# Altium integrated library ON Semi Low VCE(Sat) Transistors.IntLib: 130 symbols (part 1 of 3)
Pins are listed as number, name and electrical type; pins without a type are passive.

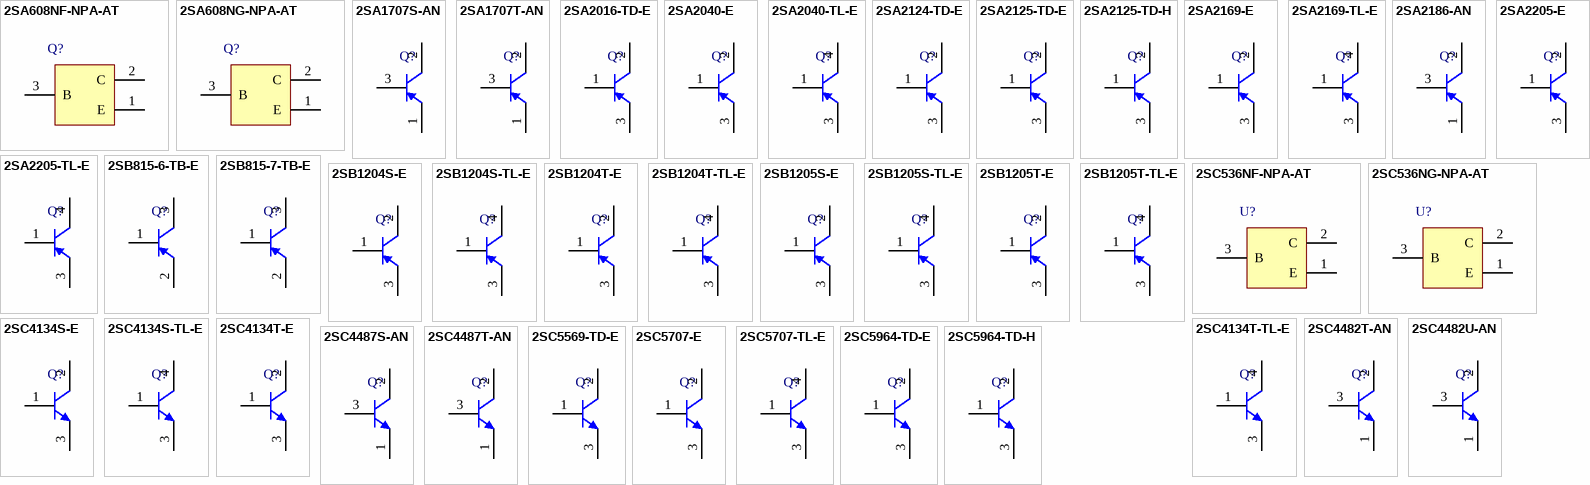
[diagram p0: symbols 2SA608NF-NPA-AT to 2SC5964-TD-H]

## 2SA608NF-NPA-AT
designator Q?
Bipolar Transistor, -50 V, -150 mA, Low VCE(sat), PNP Single, 3-Pin TO-92, Pb-Free, Fan-Fold; Manufacturer: On Semiconductor; PartNumber: 2SA608NF-NPA-AT; hFE Max: 320; hFE Min: 160; IC Continuous (A): -0.15; VCE(sat) Max (V): -0.3; PackageVersion: Rev. O, 04/2012; PackageReference: TO-92-3-135AH; PackageDescription: 3-Pin Transistor Outline, Body 4.5 x 3.5 mm, Pitch 2.5 mm; Supplier 1: Digi-Key; Supplier Part Number 1: 2SA608NF-NPA-AT-ND; Supplier 2: Mouser; Supplier Part Number 2: 863-2SA608NF-NPA-AT; Packing: Fan-Fold; Polarity: PNP; RoHS: TRUE; V(BR)CEO Min (V): -50; Mounting Technology: Through Hole; ComponentLink1Description: Manufacturer URL; ComponentLink1URL: http://www.onsemi.com/; ComponentLink2Description: Datasheet; ComponentLink2URL: http://www.onsemi.com/pub_link/Collateral/EN6324-D.PDF; ComponentLink3Description: Package Specification; ComponentLink3URL: http://www.onsemi.com/pub_link/Collateral/135AH.PDF
footprint ONSC-TO-92-3-135AH (TO, 3-Leads, Body Dia 4.5 mm, Pitch 2.5 mm)
pins: 1 E, 2 C, 3 B

## 2SA608NG-NPA-AT
designator Q?
Bipolar Transistor, -50 V, -150 mA, Low VCE(sat), PNP Single, 3-Pin TO-92, Pb-Free, Fan-Fold; Manufacturer: On Semiconductor; PartNumber: 2SA608NG-NPA-AT; hFE Max: 560; hFE Min: 280; IC Continuous (A): -0.15; VCE(sat) Max (V): -0.3; PackageVersion: Rev. O, 04/2012; PackageReference: TO-92-3-135AH; PackageDescription: 3-Pin Transistor Outline, Body 4.5 x 3.5 mm, Pitch 2.5 mm; Supplier 1: Digi-Key; Supplier Part Number 1: 2SA608NG-NPA-AT-ND; Supplier 2: Mouser; Supplier Part Number 2: 863-2SA608NG-NPA-AT; Packing: Fan-Fold; Polarity: PNP; RoHS: TRUE; V(BR)CEO Min (V): -50; Mounting Technology: Through Hole; ComponentLink1Description: Manufacturer URL; ComponentLink1URL: http://www.onsemi.com/; ComponentLink2Description: Datasheet; ComponentLink2URL: http://www.onsemi.com/pub_link/Collateral/EN6324-D.PDF; ComponentLink3Description: Package Specification; ComponentLink3URL: http://www.onsemi.com/pub_link/Collateral/135AH.PDF
footprint ONSC-TO-92-3-135AH (TO, 3-Leads, Body Dia 4.5 mm, Pitch 2.5 mm)
pins: 1 E, 2 C, 3 B

## 2SA1707S-AN
designator Q?
Bipolar Transistor, -50 V, -3 A, Low VCE(sat), PNP Single, 3-Pin NMP, Pb-Free, Fan-Fold; Manufacturer: On Semiconductor; PartNumber: 2SA1707S-AN; hFE Max: 280; hFE Min: 140; VCE(sat) Max (V): -0.7; PackageVersion: Rev. A, 05/2012; PackageReference: NMP-3-135AD; PackageDescription: 3-Pin Transistor Outline, Body 6.9 x 2.5 mm, Pitch 2.54 mm; Supplier 1: Digi-Key; Supplier Part Number 1: 2SA1707S-AN-ND; Supplier 2: Mouser; Supplier Part Number 2: 863-2SA1707S-AN; IC Continuous (A): -3; Packing: Fan-Fold; Polarity: PNP; RoHS: TRUE; V(BR)CEO Min (V): -50; Mounting Technology: Through Hole; ComponentLink1Description: Manufacturer URL; ComponentLink1URL: http://www.onsemi.com/; ComponentLink2Description: Datasheet; ComponentLink2URL: http://www.onsemi.com/pub_link/Collateral/EN3093-D.PDF; ComponentLink3Description: Package Specification; ComponentLink3URL: http://www.onsemi.com/pub_link/Collateral/135AD.PDF
footprint ONSC-NMP-3-135AD (NMP, 3-Leads, Body 6.9x2.45mm, Pitch 2.54mm)
pins: 1 E, 2 C, 3 B

## 2SA1707T-AN
designator Q?
Bipolar Transistor, -50 V, -3 A, Low VCE(sat), PNP Single, 3-Pin NMP, Pb-Free, Fan-Fold; Manufacturer: On Semiconductor; PartNumber: 2SA1707T-AN; hFE Max: 400; hFE Min: 200; VCE(sat) Max (V): -0.7; PackageVersion: Rev. A, 05/2012; PackageReference: NMP-3-135AD; PackageDescription: 3-Pin Transistor Outline, Body 6.9 x 2.5 mm, Pitch 2.54 mm; Supplier 1: Digi-Key; Supplier Part Number 1: 2SA1707T-AN-ND; Supplier 2: Mouser; Supplier Part Number 2: 863-2SA1707T-AN; IC Continuous (A): -3; Packing: Fan-Fold; Polarity: PNP; RoHS: TRUE; V(BR)CEO Min (V): -50; Mounting Technology: Through Hole; ComponentLink1Description: Manufacturer URL; ComponentLink1URL: http://www.onsemi.com/; ComponentLink2Description: Datasheet; ComponentLink2URL: http://www.onsemi.com/pub_link/Collateral/EN3093-D.PDF; ComponentLink3Description: Package Specification; ComponentLink3URL: http://www.onsemi.com/pub_link/Collateral/135AD.PDF
footprint ONSC-NMP-3-135AD (NMP, 3-Leads, Body 6.9x2.45mm, Pitch 2.54mm)
pins: 1 E, 2 C, 3 B

## 2SA2016-TD-E
designator Q?
Bipolar Transistor, -50 V, -7 A, Low VCE(sat), PNP Single, 3-Pin SOT-89, Pb-Free, Tape and Reel; Manufacturer: On Semiconductor; PartNumber: 2SA2016-TD-E; hFE Max: 560; hFE Min: 200; PackageVersion: Rev. O, 04/2012; PackageReference: SOT-89-3-419AW; PackageDescription: 3-Pin Small Outline Transistor, Body 4.5 x 2.5 mm, Pitch 1.5 mm; Supplier 1: Digi-Key; Supplier Part Number 1: 2SA2016-TD-E-ND; Supplier 2: Newark; Supplier Part Number 2: 65T2446; Supplier 3: Mouser; Supplier Part Number 3: 863-2SA2016-TD-E; IC Continuous (A): -7; Packing: Tape and Reel; Polarity: PNP; RoHS: TRUE; V(BR)CEO Min (V): -50; Mounting Technology: Surface Mount; ComponentLink1Description: Manufacturer URL; ComponentLink1URL: http://www.onsemi.com/; ComponentLink2Description: Datasheet; ComponentLink2URL: http://www.onsemi.com/pub_link/Collateral/EN6309-D.PDF; ComponentLink3Description: Package Specification; ComponentLink3URL: http://www.onsemi.com/pub_link/Collateral/419AW.PDF
footprint ONSC-SOT-89-3-419AW_V (SOT89, 3-Leads, Body 4.5x2.5mm, Pitch 1.5mm)
pins: 1 B, 2 C, 3 E

## 2SA2040-E
designator Q?
Bipolar Transistor, -50 V, -8 A, Low VCE(sat), PNP Single, 3-Pin IPAK, Pb-Free, Bulk Bag; Manufacturer: On Semiconductor; PartNumber: 2SA2040-E; hFE Max: 560; hFE Min: 200; PackageVersion: Rev. O, 01/2012; PackageReference: IPAK-3-369AJ; PackageDescription: 3-Pin Flange Mount, Vertical Straight Lead, Body 6.5 x 5.5 mm, Pitch 2.3 mm; Supplier 1: Digi-Key; Supplier Part Number 1: 2SA2040-E-ND; Supplier 2: Newark; Supplier Part Number 2: 65T2448; Supplier 3: Mouser; Supplier Part Number 3: 863-2SA2040-E; IC Continuous (A): -8; Packing: Bulk Bag; Polarity: PNP; RoHS: TRUE; V(BR)CEO Min (V): -50; Mounting Technology: Through Hole; ComponentLink1Description: Manufacturer URL; ComponentLink1URL: http://www.onsemi.com/; ComponentLink2Description: Datasheet; ComponentLink2URL: http://www.onsemi.com/pub_link/Collateral/EN6913-D.PDF; ComponentLink3Description: Package Specification; ComponentLink3URL: http://www.onsemi.cn/pub_link/Collateral/369AJ.PDF
footprint ONSC-IPAK-3-369AJ (FM, 3-Leads, Body 6.7x2.5mm, Pitch 2.3mm)
pins: 1 B, 2 C, 3 E

## 2SA2040-TL-E
designator Q?
Bipolar Transistor, -50 V, -8 A, Low VCE(sat), PNP Single, 3-Pin DPAK, Pb-Free, Tape and Reel; Manufacturer: On Semiconductor; PartNumber: 2SA2040-TL-E; hFE Max: 560; hFE Min: 200; PackageReference: DPAK-3; PackageDescription: 3-Pin Flange Mount, Body 6.5 x 5.5 mm, Pitch 2.3 mm; Supplier 1: Digi-Key; Supplier Part Number 1: 2SA2040-TL-E-ND; Supplier 2: Mouser; Supplier Part Number 2: 863-2SA2040-TL-E; IC Continuous (A): -8; Packing: Tape and Reel; Polarity: PNP; RoHS: TRUE; V(BR)CEO Min (V): -50; Mounting Technology: Surface Mount; ComponentLink1Description: Manufacturer URL; ComponentLink1URL: http://www.onsemi.com/; ComponentLink2Description: Datasheet; ComponentLink2URL: http://www.onsemi.com/pub_link/Collateral/EN6913-D.PDF; ComponentLink3Description: Package Specification; ComponentLink3URL: http://www.onsemi.com/pub_link/Collateral/2SB1204-D.PDF
footprint ONSC-DPAK-3_V (DPAK, 3-Leads, Body 6.5x5.5mm, Pitch 2.3mm)
pins: 1 B, 3 E, 4 C

## 2SA2124-TD-E
designator Q?
Bipolar Transistor, -30 V, -2 A, Low VCE(sat), PNP Single, 3-Pin SOT-89, Pb-Free, Tape and Reel; Manufacturer: On Semiconductor; PartNumber: 2SA2124-TD-E; VCE(sat) Max (V): -0.4; PackageVersion: Rev. O, 04/2012; PackageReference: SOT-89_PCP-1-3-419AU; PackageDescription: 3-Pin Small Outline Transistor, Body 4.5 x 2.5 mm, Pitch 1.5 mm; Supplier 1: Digi-Key; Supplier Part Number 1: 2SA2124-TD-E-ND; Supplier 2: Mouser; Supplier Part Number 2: 863-2SA2124-TD-E; IC Continuous (A): -2; Packing: Tape and Reel; Polarity: PNP; RoHS: TRUE; V(BR)CEO Min (V): -30; Mounting Technology: Surface Mount; ComponentLink1Description: Manufacturer URL; ComponentLink1URL: http://www.onsemi.com/; ComponentLink2Description: Datasheet; ComponentLink2URL: http://www.onsemi.com/pub_link/Collateral/EN7920-D.PDF; ComponentLink3Description: Package Specification; ComponentLink3URL: http://www.onsemi.com/pub_link/Collateral/ENA1087-D.PDF
footprint ONSC-SOT-89_PCP-1-3-419AU_V (SOT89, 3-Leads, Body 4.5x2.5mm, Pitch 1.5mm)
pins: 1 B, 2 C, 3 E

## 2SA2125-TD-E
designator Q?
Bipolar Transistor, -50 V, -3 A, Low VCE(sat), PNP Single PCP, 3-Pin SOT-89, Pb-Free, Tape and Reel; Manufacturer: On Semiconductor; PartNumber: 2SA2125-TD-E; hFE Max: 560; hFE Min: 200; PackageVersion: Rev. O, 04/2012; PackageReference: SOT-89_PCP-1-3-419AU; PackageDescription: 3-Pin Small Outline Transistor, Body 4.5 x 2.5 mm, Pitch 1.5 mm; Supplier 1: Digi-Key; Supplier Part Number 1: 2SA2125-TD-E-ND; Supplier 2: Mouser; Supplier Part Number 2: 863-2SA2125-TD-E; IC Continuous (A): -3; Packing: Tape and Reel; Polarity: PNP; RoHS: TRUE; V(BR)CEO Min (V): -50; Mounting Technology: Surface Mount; ComponentLink1Description: Manufacturer URL; ComponentLink1URL: http://www.onsemi.com/; ComponentLink2Description: Datasheet; ComponentLink2URL: http://www.onsemi.com/pub_link/Collateral/EN7988-D.PDF; ComponentLink3Description: Package Specification; ComponentLink3URL: http://www.onsemi.com/pub_link/Collateral/ENA1087-D.PDF
footprint ONSC-SOT-89_PCP-1-3-419AU_V (SOT89, 3-Leads, Body 4.5x2.5mm, Pitch 1.5mm)
pins: 1 B, 2 C, 3 E

## 2SA2125-TD-H
designator Q?
Bipolar Transistor, -50 V, -3 A, Low VCE(sat), PNP Single PCP, 3-Pin SOT-89, Pb-Free, Tape and Reel; Manufacturer: On Semiconductor; PartNumber: 2SA2125-TD-H; hFE Max: 560; hFE Min: 200; PackageVersion: Rev. O, 04/2012; PackageReference: SOT-89_PCP-1-3-419AU; PackageDescription: 3-Pin Small Outline Transistor, Body 4.5 x 2.5 mm, Pitch 1.5 mm; Supplier 1: Digi-Key; Supplier Part Number 1: 2SA2125-TD-H-ND; Supplier 2: Mouser; Supplier Part Number 2: 863-2SA2125-TD-H; IC Continuous (A): -3; Packing: Tape and Reel; Polarity: PNP; RoHS: TRUE; V(BR)CEO Min (V): -50; Mounting Technology: Surface Mount; ComponentLink1Description: Manufacturer URL; ComponentLink1URL: http://www.onsemi.com/; ComponentLink2Description: Datasheet; ComponentLink2URL: http://www.onsemi.com/pub_link/Collateral/EN7988-D.PDF; ComponentLink3Description: Package Specification; ComponentLink3URL: http://www.onsemi.com/pub_link/Collateral/ENA1087-D.PDF
footprint ONSC-SOT-89_PCP-1-3-419AU_V (SOT89, 3-Leads, Body 4.5x2.5mm, Pitch 1.5mm)
pins: 1 B, 2 C, 3 E

## 2SA2169-E
designator Q?
Bipolar Transistor, -50 V, -10 A, Low VCE(sat), PNP Single, 3-Pin IPAK, Pb-Free, Bulk Bag; Manufacturer: On Semiconductor; PartNumber: 2SA2169-E; hFE Max: 560; hFE Min: 200; VCE(sat) Max (V): -0.58; PackageVersion: Rev. O, 01/2012; PackageReference: IPAK-3-369AJ; PackageDescription: 3-Pin Flange Mount, Vertical Straight Lead, Body 6.5 x 5.5 mm, Pitch 2.3 mm; Supplier 1: Digi-Key; Supplier Part Number 1: 2SA2169-E-ND; Supplier 2: Newark; Supplier Part Number 2: 65T2453; Supplier 3: Mouser; Supplier Part Number 3: 863-2SA2169-E; IC Continuous (A): -10; Packing: Bulk Bag; Polarity: PNP; RoHS: TRUE; V(BR)CEO Min (V): -50; Mounting Technology: Through Hole; ComponentLink1Description: Manufacturer URL; ComponentLink1URL: http://www.onsemi.com/; ComponentLink2Description: Datasheet; ComponentLink2URL: http://www.onsemi.com/pub_link/Collateral/EN8275-D.PDF; ComponentLink3Description: Package Specification; ComponentLink3URL: http://www.onsemi.cn/pub_link/Collateral/369AJ.PDF
footprint ONSC-IPAK-3-369AJ (FM, 3-Leads, Body 6.7x2.5mm, Pitch 2.3mm)
pins: 1 B, 2 C, 3 E

## 2SA2169-TL-E
designator Q?
Bipolar Transistor, -50 V, -10 A, Low VCE(sat), PNP Single, 3-Pin DPAK, Pb-Free, Tape and Reel; Manufacturer: On Semiconductor; PartNumber: 2SA2169-TL-E; hFE Max: 560; hFE Min: 200; VCE(sat) Max (V): -0.58; PackageReference: DPAK-3; PackageDescription: 3-Pin Flange Mount, Body 6.5 x 5.5 mm, Pitch 2.3 mm; Supplier 1: Digi-Key; Supplier Part Number 1: 2SA2169-TL-E-ND; Supplier 2: Mouser; Supplier Part Number 2: 863-2SA2169-TL-E; IC Continuous (A): -10; Packing: Tape and Reel; Polarity: PNP; RoHS: TRUE; V(BR)CEO Min (V): -50; Mounting Technology: Surface Mount; ComponentLink1Description: Manufacturer URL; ComponentLink1URL: http://www.onsemi.com/; ComponentLink2Description: Datasheet; ComponentLink2URL: http://www.onsemi.com/pub_link/Collateral/EN8275-D.PDF; ComponentLink3Description: Package Specification; ComponentLink3URL: http://www.onsemi.com/pub_link/Collateral/2SB1204-D.PDF
footprint ONSC-DPAK-3_V (DPAK, 3-Leads, Body 6.5x5.5mm, Pitch 2.3mm)
pins: 1 B, 3 E, 4 C

## 2SA2186-AN
designator Q?
Bipolar Transistor, -50 V, -2 A, Low VCE(sat), PNP Single, 3-Pin NMP, Pb-Free, Ammo Box; Manufacturer: On Semiconductor; PartNumber: 2SA2186-AN; VCE(sat) Max (V): -0.43; PackageVersion: Rev. A, 05/2012; PackageReference: NMP-3-135AD; PackageDescription: 3-Pin Transistor Outline, Body 6.9 x 2.5 mm, Pitch 2.54 mm; Supplier 1: Digi-Key; Supplier Part Number 1: 2SA2186-AN-ND; Supplier 2: Newark; Supplier Part Number 2: 07W7603; Supplier 3: Mouser; Supplier Part Number 3: 863-2SA2186-AN; IC Continuous (A): -2; Polarity: PNP; RoHS: TRUE; V(BR)CEO Min (V): -50; Mounting Technology: Through Hole; ComponentLink1Description: Manufacturer URL; ComponentLink1URL: http://www.onsemi.com/; ComponentLink2Description: Datasheet; ComponentLink2URL: http://www.onsemi.com/pub_link/Collateral/ENA0269-D.PDF; ComponentLink3Description: Package Specification; ComponentLink3URL: http://www.onsemi.com/pub_link/Collateral/135AD.PDF
footprint ONSC-NMP-3-135AD (NMP, 3-Leads, Body 6.9x2.45mm, Pitch 2.54mm)
pins: 1 E, 2 C, 3 B

## 2SA2205-E
designator Q?
Bipolar Transistor, -100 V, -2 A, Low VCE(sat), PNP Single, 3-Pin IPAK, Pb-Free, Bulk Bag; Manufacturer: On Semiconductor; PartNumber: 2SA2205-E; hFE Max: 400; hFE Min: 200; VCE(sat) Max (V): -0.24; PackageVersion: Rev. O, 01/2012; PackageReference: IPAK-3-369AJ; PackageDescription: 3-Pin Flange Mount, Vertical Straight Lead, Body 6.5 x 5.5 mm, Pitch 2.3 mm; Supplier 1: Digi-Key; Supplier Part Number 1: 2SA2205-E-ND; Supplier 2: Newark; Supplier Part Number 2: 07W7604; Supplier 3: Mouser; Supplier Part Number 3: 863-2SA2205-E; IC Continuous (A): -2; Packing: Bulk Bag; Polarity: PNP; RoHS: TRUE; V(BR)CEO Min (V): -100; Mounting Technology: Through Hole; ComponentLink1Description: Manufacturer URL; ComponentLink1URL: http://www.onsemi.com/; ComponentLink2Description: Datasheet; ComponentLink2URL: http://www.onsemi.com/pub_link/Collateral/ENA0544-D.PDF; ComponentLink3Description: Package Specification; ComponentLink3URL: http://www.onsemi.cn/pub_link/Collateral/369AJ.PDF
footprint ONSC-IPAK-3-369AJ (FM, 3-Leads, Body 6.7x2.5mm, Pitch 2.3mm)
pins: 1 B, 2 C, 3 E

## 2SA2205-TL-E
designator Q?
Bipolar Transistor, -100 V, -2 A, Low VCE(sat), PNP Single, 3-Pin DPAK, Pb-Free, Tape and Reel; Manufacturer: On Semiconductor; PartNumber: 2SA2205-TL-E; hFE Max: 400; hFE Min: 200; VCE(sat) Max (V): -0.24; PackageReference: DPAK-3; PackageDescription: 3-Pin Flange Mount, Body 6.5 x 5.5 mm, Pitch 2.3 mm; Supplier 1: Digi-Key; Supplier Part Number 1: 2SA2205-TL-E-ND; Supplier 2: Mouser; Supplier Part Number 2: 863-2SA2205-TL-E; IC Continuous (A): -2; Packing: Tape and Reel; Polarity: PNP; RoHS: TRUE; V(BR)CEO Min (V): -100; Mounting Technology: Surface Mount; ComponentLink1Description: Manufacturer URL; ComponentLink1URL: http://www.onsemi.com/; ComponentLink2Description: Datasheet; ComponentLink2URL: http://www.onsemi.com/pub_link/Collateral/ENA0544-D.PDF; ComponentLink3Description: Package Specification; ComponentLink3URL: http://www.onsemi.com/pub_link/Collateral/2SB1204-D.PDF
footprint ONSC-DPAK-3_V (DPAK, 3-Leads, Body 6.5x5.5mm, Pitch 2.3mm)
pins: 1 B, 3 E, 4 C

## 2SB815-6-TB-E
designator Q?
Bipolar Transistor, -15 V, -0.7 A, Low VCE(sat), PNP Single, 3-Pin SOT23, Pb-Free, Tape and Reel; Manufacturer: On Semiconductor; PartNumber: 2SB815-6-TB-E; hFE Max: 400; hFE Min: 200; PackageReference: SOT23-3-318AN; PackageDescription: 3-Pin Small Outline Transistor, Body 2.9 x 1.5 mm, Pitch 0.95 mm; Supplier 1: Digi-Key; Supplier Part Number 1: 2SB815-6-TB-E-ND; Supplier 2: Mouser; Supplier Part Number 2: 863-2SB815-6-TB-E; IC Continuous (A): -0.7; Packing: Tape and Reel; Polarity: PNP; RoHS: TRUE; V(BR)CEO Min (V): -15; Mounting Technology: Surface Mount; ComponentLink1Description: Manufacturer URL; ComponentLink1URL: http://www.onsemi.com/; ComponentLink2Description: Datasheet; ComponentLink2URL: http://www.onsemi.com/pub_link/Collateral/EN694-D.PDF; ComponentLink3Description: Package Specification; ComponentLink3URL: http://www.onsemi.com/pub_link/Collateral/EN694-D.PDF
footprint ONSC-SOT23-3-318AN_V (SOT23, 3-Leads, Body 2.9x1.5mm, Pitch 0.95mm)
pins: 1 B, 2 E, 3 C

## 2SB815-7-TB-E
designator Q?
Bipolar Transistor, -15 V, -0.7 A, Low VCE(sat), PNP Single, 3-Pin SOT23, Pb-Free, Tape and Reel; Manufacturer: On Semiconductor; PartNumber: 2SB815-7-TB-E; hFE Max: 600; hFE Min: 300; PackageReference: SOT23-3-318AN; PackageDescription: 3-Pin Small Outline Transistor, Body 2.9 x 1.5 mm, Pitch 0.95 mm; Supplier 1: Digi-Key; Supplier Part Number 1: 2SB815-7-TB-E-ND; Supplier 2: Newark; Supplier Part Number 2: 07W7645; Supplier 3: Mouser; Supplier Part Number 3: 863-2SB815-7-TB-E; IC Continuous (A): -0.7; Packing: Tape and Reel; Polarity: PNP; RoHS: TRUE; V(BR)CEO Min (V): -15; Mounting Technology: Surface Mount; ComponentLink1Description: Manufacturer URL; ComponentLink1URL: http://www.onsemi.com/; ComponentLink2Description: Datasheet; ComponentLink2URL: http://www.onsemi.com/pub_link/Collateral/EN694-D.PDF; ComponentLink3Description: Package Specification; ComponentLink3URL: http://www.onsemi.com/pub_link/Collateral/EN694-D.PDF
footprint ONSC-SOT23-3-318AN_V (SOT23, 3-Leads, Body 2.9x1.5mm, Pitch 0.95mm)
pins: 1 B, 2 E, 3 C

## 2SB1204S-E
designator Q?
Bipolar Transistor, -50 V, -8 A, Low VCE(sat), PNP Single, 3-Pin IPAK, Pb-Free, Bulk Bag; Manufacturer: On Semiconductor; PartNumber: 2SB1204S-E; hFE Max: 280; hFE Min: 140; VCE(sat) Max (V): -0.5; PackageVersion: Rev. O, 01/2012; PackageReference: IPAK-3-369AJ; PackageDescription: 3-Pin Flange Mount, Vertical Straight Lead, Body 6.5 x 5.5 mm, Pitch 2.3 mm; Supplier 1: Digi-Key; Supplier Part Number 1: 2SB1204S-E-ND; Supplier 2: Mouser; Supplier Part Number 2: 863-2SB1204S-E; IC Continuous (A): -8; Packing: Bulk Bag; Polarity: PNP; RoHS: TRUE; V(BR)CEO Min (V): -50; Mounting Technology: Through Hole; ComponentLink1Description: Manufacturer URL; ComponentLink1URL: http://www.onsemi.com/; ComponentLink2Description: Datasheet; ComponentLink2URL: http://www.onsemi.com/pub_link/Collateral/2SB1204-D.PDF; ComponentLink3Description: Package Specification; ComponentLink3URL: http://www.onsemi.cn/pub_link/Collateral/369AJ.PDF
footprint ONSC-IPAK-3-369AJ (FM, 3-Leads, Body 6.7x2.5mm, Pitch 2.3mm)
pins: 1 B, 2 C, 3 E

## 2SB1204S-TL-E
designator Q?
Bipolar Transistor, -50 V, -8 A, Low VCE(sat), PNP Single, 3-Pin DPAK, Pb-Free, Tape and Reel; Manufacturer: On Semiconductor; PartNumber: 2SB1204S-TL-E; hFE Max: 280; hFE Min: 140; VCE(sat) Max (V): -0.5; PackageReference: DPAK-3; PackageDescription: 3-Pin Flange Mount, Body 6.5 x 5.5 mm, Pitch 2.3 mm; Supplier 1: Digi-Key; Supplier Part Number 1: 2SB1204S-TL-E-ND; Supplier 2: Mouser; Supplier Part Number 2: 863-2SB1204S-TL-E; IC Continuous (A): -8; Packing: Tape and Reel; Polarity: PNP; RoHS: TRUE; V(BR)CEO Min (V): -50; Mounting Technology: Surface Mount; ComponentLink1Description: Manufacturer URL; ComponentLink1URL: http://www.onsemi.com/; ComponentLink2Description: Datasheet; ComponentLink2URL: http://www.onsemi.com/pub_link/Collateral/2SB1204-D.PDF; ComponentLink3Description: Package Specification; ComponentLink3URL: http://www.onsemi.com/pub_link/Collateral/2SB1204-D.PDF
footprint ONSC-DPAK-3_V (DPAK, 3-Leads, Body 6.5x5.5mm, Pitch 2.3mm)
pins: 1 B, 3 E, 4 C

## 2SB1204T-E
designator Q?
Bipolar Transistor, -50 V, -8 A, Low VCE(sat), PNP Single, 3-Pin IPAK, Pb-Free, Bulk Bag; Manufacturer: On Semiconductor; PartNumber: 2SB1204T-E; hFE Max: 400; hFE Min: 200; VCE(sat) Max (V): -0.5; PackageVersion: Rev. O, 01/2012; PackageReference: IPAK-3-369AJ; PackageDescription: 3-Pin Flange Mount, Vertical Straight Lead, Body 6.5 x 5.5 mm, Pitch 2.3 mm; Supplier 1: Digi-Key; Supplier Part Number 1: 2SB1204T-E-ND; Supplier 2: Mouser; Supplier Part Number 2: 863-2SB1204T-E; IC Continuous (A): -8; Packing: Bulk Bag; Polarity: PNP; RoHS: TRUE; V(BR)CEO Min (V): -50; Mounting Technology: Through Hole; ComponentLink1Description: Manufacturer URL; ComponentLink1URL: http://www.onsemi.com/; ComponentLink2Description: Datasheet; ComponentLink2URL: http://www.onsemi.com/pub_link/Collateral/2SB1204-D.PDF; ComponentLink3Description: Package Specification; ComponentLink3URL: http://www.onsemi.cn/pub_link/Collateral/369AJ.PDF
footprint ONSC-IPAK-3-369AJ (FM, 3-Leads, Body 6.7x2.5mm, Pitch 2.3mm)
pins: 1 B, 2 C, 3 E

## 2SB1204T-TL-E
designator Q?
Bipolar Transistor, -50 V, -8 A, Low VCE(sat), PNP Single, 3-Pin DPAK, Pb-Free, Tape and Reel; Manufacturer: On Semiconductor; PartNumber: 2SB1204T-TL-E; hFE Max: 400; hFE Min: 200; VCE(sat) Max (V): -0.5; PackageReference: DPAK-3; PackageDescription: 3-Pin Flange Mount, Body 6.5 x 5.5 mm, Pitch 2.3 mm; Supplier 1: Digi-Key; Supplier Part Number 1: 2SB1204T-TL-E-ND; Supplier 2: Mouser; Supplier Part Number 2: 863-2SB1204T-TL-E; IC Continuous (A): -8; Packing: Tape and Reel; Polarity: PNP; RoHS: TRUE; V(BR)CEO Min (V): -50; Mounting Technology: Surface Mount; ComponentLink1Description: Manufacturer URL; ComponentLink1URL: http://www.onsemi.com/; ComponentLink2Description: Datasheet; ComponentLink2URL: http://www.onsemi.com/pub_link/Collateral/2SB1204-D.PDF; ComponentLink3Description: Package Specification; ComponentLink3URL: http://www.onsemi.com/pub_link/Collateral/2SB1204-D.PDF
footprint ONSC-DPAK-3_V (DPAK, 3-Leads, Body 6.5x5.5mm, Pitch 2.3mm)
pins: 1 B, 3 E, 4 C

## 2SB1205S-E
designator Q?
Bipolar Transistor, -20 V, -5 A, Low VCE(sat), PNP Single, 3-Pin IPAK, Pb-Free, Bulk Bag; Manufacturer: On Semiconductor; PartNumber: 2SB1205S-E; hFE Max: 280; hFE Min: 140; VCE(sat) Max (V): -0.5; PackageVersion: Rev. O, 01/2012; PackageReference: IPAK-3-369AJ; PackageDescription: 3-Pin Flange Mount, Vertical Straight Lead, Body 6.5 x 5.5 mm, Pitch 2.3 mm; Supplier 1: Digi-Key; Supplier Part Number 1: 2SB1205S-E-ND; Supplier 2: Mouser; Supplier Part Number 2: 863-2SB1205S-E; IC Continuous (A): -5; Packing: Bulk Bag; Polarity: PNP; RoHS: TRUE; V(BR)CEO Min (V): -20; Mounting Technology: Through Hole; ComponentLink1Description: Manufacturer URL; ComponentLink1URL: http://www.onsemi.com/; ComponentLink2Description: Datasheet; ComponentLink2URL: http://www.onsemi.com/pub_link/Collateral/EN2114-D.PDF; ComponentLink3Description: Package Specification; ComponentLink3URL: http://www.onsemi.cn/pub_link/Collateral/369AJ.PDF
footprint ONSC-IPAK-3-369AJ (FM, 3-Leads, Body 6.7x2.5mm, Pitch 2.3mm)
pins: 1 B, 2 C, 3 E

## 2SB1205S-TL-E
designator Q?
Bipolar Transistor, -20 V, -5 A, Low VCE(sat), PNP Single, 3-Pin DPAK, Pb-Free, Tape and Reel; Manufacturer: On Semiconductor; PartNumber: 2SB1205S-TL-E; hFE Max: 280; hFE Min: 140; VCE(sat) Max (V): -0.5; PackageReference: DPAK-3; PackageDescription: 3-Pin Flange Mount, Body 6.5 x 5.5 mm, Pitch 2.3 mm; Supplier 1: Digi-Key; Supplier Part Number 1: 2SB1205S-TL-E-ND; Supplier 2: Mouser; Supplier Part Number 2: 863-2SB1205S-TL-E; IC Continuous (A): -5; Packing: Tape and Reel; Polarity: PNP; RoHS: TRUE; V(BR)CEO Min (V): -20; Mounting Technology: Surface Mount; ComponentLink1Description: Manufacturer URL; ComponentLink1URL: http://www.onsemi.com/; ComponentLink2Description: Datasheet; ComponentLink2URL: http://www.onsemi.com/pub_link/Collateral/EN2114-D.PDF; ComponentLink3Description: Package Specification; ComponentLink3URL: http://www.onsemi.com/pub_link/Collateral/2SB1204-D.PDF
footprint ONSC-DPAK-3_V (DPAK, 3-Leads, Body 6.5x5.5mm, Pitch 2.3mm)
pins: 1 B, 3 E, 4 C

## 2SB1205T-E
designator Q?
Bipolar Transistor, -20 V, -5 A, Low VCE(sat), PNP Single, 3-Pin IPAK, Pb-Free, Bulk Bag; Manufacturer: On Semiconductor; PartNumber: 2SB1205T-E; hFE Max: 400; hFE Min: 200; VCE(sat) Max (V): -0.5; PackageVersion: Rev. O, 01/2012; PackageReference: IPAK-3-369AJ; PackageDescription: 3-Pin Flange Mount, Vertical Straight Lead, Body 6.5 x 5.5 mm, Pitch 2.3 mm; Supplier 1: Digi-Key; Supplier Part Number 1: 2SB1205T-E-ND; Supplier 2: Mouser; Supplier Part Number 2: 863-2SB1205T-E; IC Continuous (A): -5; Packing: Bulk Bag; Polarity: PNP; RoHS: TRUE; V(BR)CEO Min (V): -20; Mounting Technology: Through Hole; ComponentLink1Description: Manufacturer URL; ComponentLink1URL: http://www.onsemi.com/; ComponentLink2Description: Datasheet; ComponentLink2URL: http://www.onsemi.com/pub_link/Collateral/EN2114-D.PDF; ComponentLink3Description: Package Specification; ComponentLink3URL: http://www.onsemi.cn/pub_link/Collateral/369AJ.PDF
footprint ONSC-IPAK-3-369AJ (FM, 3-Leads, Body 6.7x2.5mm, Pitch 2.3mm)
pins: 1 B, 2 C, 3 E

## 2SB1205T-TL-E
designator Q?
Bipolar Transistor, -20 V, -5 A, Low VCE(sat), PNP Single, 3-Pin DPAK, Pb-Free, Tape and Reel; Manufacturer: On Semiconductor; PartNumber: 2SB1205T-TL-E; hFE Max: 400; hFE Min: 200; VCE(sat) Max (V): -0.5; PackageReference: DPAK-3; PackageDescription: 3-Pin Flange Mount, Body 6.5 x 5.5 mm, Pitch 2.3 mm; Supplier 1: Digi-Key; Supplier Part Number 1: 2SB1205T-TL-E-ND; Supplier 2: Mouser; Supplier Part Number 2: 863-2SB1205T-TL-E; IC Continuous (A): -5; Packing: Tape and Reel; Polarity: PNP; RoHS: TRUE; V(BR)CEO Min (V): -20; Mounting Technology: Surface Mount; ComponentLink1Description: Manufacturer URL; ComponentLink1URL: http://www.onsemi.com/; ComponentLink2Description: Datasheet; ComponentLink2URL: http://www.onsemi.com/pub_link/Collateral/EN2114-D.PDF; ComponentLink3Description: Package Specification; ComponentLink3URL: http://www.onsemi.com/pub_link/Collateral/2SB1204-D.PDF
footprint ONSC-DPAK-3_V (DPAK, 3-Leads, Body 6.5x5.5mm, Pitch 2.3mm)
pins: 1 B, 3 E, 4 C

## 2SC536NF-NPA-AT
designator U?
Bipolar Transistor, 50 V, 150 mA, Low VCE(sat) NPN Single, 3-Pin TO-92, Pb-Free, Fan-Fold; Manufacturer: On Semiconductor; PartNumber: 2SC536NF-NPA-AT; hFE Max: 320; hFE Min: 160; IC Continuous (A): 0.15; V(BR)CEO Min (V): 50; VCE(sat) Max (V): 0.3; PackageVersion: Rev. O, 04/2012; PackageReference: TO-92-3-135AH; PackageDescription: 3-Pin Transistor Outline, Body 4.5 x 3.5 mm, Pitch 2.5 mm; Supplier 1: Digi-Key; Supplier Part Number 1: 2SC536NF-NPA-AT-ND; Supplier 2: Newark; Supplier Part Number 2: 07W7673; Supplier 3: Mouser; Supplier Part Number 3: 863-2SC536NF-NPA-AT; Packing: Fan-Fold; Polarity: NPN; RoHS: TRUE; Mounting Technology: Through Hole; ComponentLink1Description: Manufacturer URL; ComponentLink1URL: http://www.onsemi.com/; ComponentLink2Description: Datasheet; ComponentLink2URL: http://www.onsemi.com/pub_link/Collateral/EN6324-D.PDF; ComponentLink3Description: Package Specification; ComponentLink3URL: http://www.onsemi.com/pub_link/Collateral/135AH.PDF
footprint ONSC-TO-92-3-135AH (TO, 3-Leads, Body Dia 4.5 mm, Pitch 2.5 mm)
pins: 1 E, 2 C, 3 B

## 2SC536NG-NPA-AT
designator U?
Bipolar Transistor, 50 V, 150 mA, Low VCE(sat) NPN Single, 3-Pin TO-92, Pb-Free, Fan-Fold; Manufacturer: On Semiconductor; PartNumber: 2SC536NG-NPA-AT; hFE Max: 560; hFE Min: 280; IC Continuous (A): 0.15; V(BR)CEO Min (V): 50; VCE(sat) Max (V): 0.3; PackageVersion: Rev. O, 04/2012; PackageReference: TO-92-3-135AH; PackageDescription: 3-Pin Transistor Outline, Body 4.5 x 3.5 mm, Pitch 2.5 mm; Supplier 1: Digi-Key; Supplier Part Number 1: 2SC536NG-NPA-AT-ND; Supplier 2: Newark; Supplier Part Number 2: 07W7674; Supplier 3: Mouser; Supplier Part Number 3: 863-2SC536NG-NPA-AT; Packing: Fan-Fold; Polarity: NPN; RoHS: TRUE; Mounting Technology: Through Hole; ComponentLink1Description: Manufacturer URL; ComponentLink1URL: http://www.onsemi.com/; ComponentLink2Description: Datasheet; ComponentLink2URL: http://www.onsemi.com/pub_link/Collateral/EN6324-D.PDF; ComponentLink3Description: Package Specification; ComponentLink3URL: http://www.onsemi.com/pub_link/Collateral/135AH.PDF
footprint ONSC-TO-92-3-135AH (TO, 3-Leads, Body Dia 4.5 mm, Pitch 2.5 mm)
pins: 1 E, 2 C, 3 B

## 2SC4134S-E
designator Q?
Bipolar Transistor, 100 V, 1 A, Low VCE(sat), NPN Single, 3-Pin IPAK, Pb-Free, Bulk Bag; Manufacturer: On Semiconductor; PartNumber: 2SC4134S-E; hFE Max: 280; hFE Min: 140; IC Continuous (A): 1; V(BR)CEO Min (V): 100; VCE(sat) Max (V): 0.4; PackageVersion: Rev. O, 01/2012; PackageReference: IPAK-3-369AJ; PackageDescription: 3-Pin Flange Mount, Vertical Straight Lead, Body 6.5 x 5.5 mm, Pitch 2.3 mm; Supplier 1: Digi-Key; Supplier Part Number 1: 2SC4134S-E-ND; Supplier 2: Mouser; Supplier Part Number 2: 863-2SC4134S-E; Packing: Bulk Bag; Polarity: NPN; RoHS: TRUE; Mounting Technology: Through Hole; ComponentLink1Description: Manufacturer URL; ComponentLink1URL: http://www.onsemi.com/; ComponentLink2Description: Datasheet; ComponentLink2URL: http://www.onsemi.com/pub_link/Collateral/EN2510-D.PDF; ComponentLink3Description: Package Specification; ComponentLink3URL: http://www.onsemi.cn/pub_link/Collateral/369AJ.PDF
footprint ONSC-IPAK-3-369AJ (FM, 3-Leads, Body 6.7x2.5mm, Pitch 2.3mm)
pins: 1 B, 2 C, 3 E

## 2SC4134S-TL-E
designator Q?
Bipolar Transistor, 100 V, 1 A, Low VCE(sat), NPN Single, 3-Pin DPAK, Pb-Free, Tape and Reel; Manufacturer: On Semiconductor; PartNumber: 2SC4134S-TL-E; hFE Max: 280; hFE Min: 140; IC Continuous (A): 1; V(BR)CEO Min (V): 100; VCE(sat) Max (V): 0.4; PackageReference: DPAK-3; PackageDescription: 3-Pin Flange Mount, Body 6.5 x 5.5 mm, Pitch 2.3 mm; Supplier 1: Digi-Key; Supplier Part Number 1: 2SC4134S-TL-E-ND; Supplier 2: Mouser; Supplier Part Number 2: 863-2SC4134S-TL-E; Packing: Tape and Reel; Polarity: NPN; RoHS: TRUE; Mounting Technology: Surface Mount; ComponentLink1Description: Manufacturer URL; ComponentLink1URL: http://www.onsemi.com/; ComponentLink2Description: Datasheet; ComponentLink2URL: http://www.onsemi.com/pub_link/Collateral/EN2510-D.PDF; ComponentLink3Description: Package Specification; ComponentLink3URL: http://www.onsemi.com/pub_link/Collateral/2SB1204-D.PDF
footprint ONSC-DPAK-3_V (DPAK, 3-Leads, Body 6.5x5.5mm, Pitch 2.3mm)
pins: 1 B, 3 E, 4 C

## 2SC4134T-E
designator Q?
Bipolar Transistor, 100 V, 1 A, Low VCE(sat), NPN Single, 3-Pin IPAK, Pb-Free, Bulk Bag; Manufacturer: On Semiconductor; PartNumber: 2SC4134T-E; hFE Max: 400; hFE Min: 200; IC Continuous (A): 1; V(BR)CEO Min (V): 100; VCE(sat) Max (V): 0.4; PackageVersion: Rev. O, 01/2012; PackageReference: IPAK-3-369AJ; PackageDescription: 3-Pin Flange Mount, Vertical Straight Lead, Body 6.5 x 5.5 mm, Pitch 2.3 mm; Supplier 1: Digi-Key; Supplier Part Number 1: 2SC4134T-E-ND; Supplier 2: Mouser; Supplier Part Number 2: 863-2SC4134T-E; Packing: Bulk Bag; Polarity: NPN; RoHS: TRUE; Mounting Technology: Through Hole; ComponentLink1Description: Manufacturer URL; ComponentLink1URL: http://www.onsemi.com/; ComponentLink2Description: Datasheet; ComponentLink2URL: http://www.onsemi.com/pub_link/Collateral/EN2510-D.PDF; ComponentLink3Description: Package Specification; ComponentLink3URL: http://www.onsemi.cn/pub_link/Collateral/369AJ.PDF
footprint ONSC-IPAK-3-369AJ (FM, 3-Leads, Body 6.7x2.5mm, Pitch 2.3mm)
pins: 1 B, 2 C, 3 E

## 2SC4134T-TL-E
designator Q?
Bipolar Transistor, 100 V, 1 A, Low VCE(sat), NPN Single, 3-Pin DPAK, Pb-Free, Tape and Reel; Manufacturer: On Semiconductor; PartNumber: 2SC4134T-TL-E; hFE Max: 400; hFE Min: 200; IC Continuous (A): 1; V(BR)CEO Min (V): 100; VCE(sat) Max (V): 0.4; PackageReference: DPAK-3; PackageDescription: 3-Pin Flange Mount, Body 6.5 x 5.5 mm, Pitch 2.3 mm; Supplier 1: Digi-Key; Supplier Part Number 1: 2SC4134T-TL-E-ND; Supplier 2: Mouser; Supplier Part Number 2: 863-2SC4134T-TL-E; Packing: Tape and Reel; Polarity: NPN; RoHS: TRUE; Mounting Technology: Surface Mount; ComponentLink1Description: Manufacturer URL; ComponentLink1URL: http://www.onsemi.com/; ComponentLink2Description: Datasheet; ComponentLink2URL: http://www.onsemi.com/pub_link/Collateral/EN2510-D.PDF; ComponentLink3Description: Package Specification; ComponentLink3URL: http://www.onsemi.com/pub_link/Collateral/2SB1204-D.PDF
footprint ONSC-DPAK-3_V (DPAK, 3-Leads, Body 6.5x5.5mm, Pitch 2.3mm)
pins: 1 B, 3 E, 4 C

## 2SC4482T-AN
designator Q?
Bipolar Transistor, 20 V, 5 A, Low VCE(sat), NPN Single, 3-Pin NMP, Pb-Free, Fan-Fold; Manufacturer: On Semiconductor; PartNumber: 2SC4482T-AN; hFE Max: 400; hFE Min: 200; IC Continuous (A): 5; V(BR)CEO Min (V): 20; VCE(sat) Max (V): 0.5; PackageVersion: Rev. A, 05/2012; PackageReference: NMP-3-135AD; PackageDescription: 3-Pin Transistor Outline, Body 6.9 x 2.5 mm, Pitch 2.54 mm; Supplier 1: Digi-Key; Supplier Part Number 1: 2SC4482T-AN-ND; Supplier 2: Mouser; Supplier Part Number 2: 863-2SC4482T-AN; Packing: Fan-Fold; Polarity: NPN; RoHS: TRUE; Mounting Technology: Through Hole; ComponentLink1Description: Manufacturer URL; ComponentLink1URL: http://www.onsemi.com/; ComponentLink2Description: Datasheet; ComponentLink2URL: http://www.onsemi.com/pub_link/Collateral/EN3235-D.PDF; ComponentLink3Description: Package Specification; ComponentLink3URL: http://www.onsemi.com/pub_link/Collateral/135AD.PDF
footprint ONSC-NMP-3-135AD (NMP, 3-Leads, Body 6.9x2.45mm, Pitch 2.54mm)
pins: 1 E, 2 C, 3 B

## 2SC4482U-AN
designator Q?
Bipolar Transistor, 20 V, 5 A, Low VCE(sat), NPN Single, 3-Pin NMP, Pb-Free, Fan-Fold; Manufacturer: On Semiconductor; PartNumber: 2SC4482U-AN; hFE Max: 560; hFE Min: 280; IC Continuous (A): 5; V(BR)CEO Min (V): 20; VCE(sat) Max (V): 0.5; PackageVersion: Rev. A, 05/2012; PackageReference: NMP-3-135AD; PackageDescription: 3-Pin Transistor Outline, Body 6.9 x 2.5 mm, Pitch 2.54 mm; Supplier 1: Digi-Key; Supplier Part Number 1: 2SC4482U-AN-ND; Supplier 2: Mouser; Supplier Part Number 2: 863-2SC4482U-AN; Packing: Fan-Fold; Polarity: NPN; RoHS: TRUE; Mounting Technology: Through Hole; ComponentLink1Description: Manufacturer URL; ComponentLink1URL: http://www.onsemi.com/; ComponentLink2Description: Datasheet; ComponentLink2URL: http://www.onsemi.com/pub_link/Collateral/EN3235-D.PDF; ComponentLink3Description: Package Specification; ComponentLink3URL: http://www.onsemi.com/pub_link/Collateral/135AD.PDF
footprint ONSC-NMP-3-135AD (NMP, 3-Leads, Body 6.9x2.45mm, Pitch 2.54mm)
pins: 1 E, 2 C, 3 B

## 2SC4487S-AN
designator Q?
Bipolar Transistor, 50 V, 3 A, Low VCE(sat), NPN Single, 3-Pin NMP, Pb-Free, Fan-Fold; Manufacturer: On Semiconductor; PartNumber: 2SC4487S-AN; hFE Max: 280; hFE Min: 140; IC Continuous (A): 3; V(BR)CEO Min (V): 50; VCE(sat) Max (V): 0.5; PackageVersion: Rev. A, 05/2012; PackageReference: NMP-3-135AD; PackageDescription: 3-Pin Transistor Outline, Body 6.9 x 2.5 mm, Pitch 2.54 mm; Supplier 1: Digi-Key; Supplier Part Number 1: 2SC4487S-AN-ND; Supplier 2: Mouser; Supplier Part Number 2: 863-2SC4487S-AN; Packing: Fan-Fold; Polarity: NPN; RoHS: TRUE; Mounting Technology: Through Hole; ComponentLink1Description: Manufacturer URL; ComponentLink1URL: http://www.onsemi.com/; ComponentLink2Description: Datasheet; ComponentLink2URL: http://www.onsemi.com/pub_link/Collateral/EN3093-D.PDF; ComponentLink3Description: Package Specification; ComponentLink3URL: http://www.onsemi.com/pub_link/Collateral/135AD.PDF
footprint ONSC-NMP-3-135AD (NMP, 3-Leads, Body 6.9x2.45mm, Pitch 2.54mm)
pins: 1 E, 2 C, 3 B

## 2SC4487T-AN
designator Q?
Bipolar Transistor, 50 V, 3 A, Low VCE(sat), NPN Single, 3-Pin NMP, Pb-Free, Fan-Fold; Manufacturer: On Semiconductor; PartNumber: 2SC4487T-AN; hFE Max: 400; hFE Min: 200; IC Continuous (A): 3; V(BR)CEO Min (V): 50; VCE(sat) Max (V): 0.5; PackageVersion: Rev. A, 05/2012; PackageReference: NMP-3-135AD; PackageDescription: 3-Pin Transistor Outline, Body 6.9 x 2.5 mm, Pitch 2.54 mm; Supplier 1: Digi-Key; Supplier Part Number 1: 2SC4487T-AN-ND; Supplier 2: Mouser; Supplier Part Number 2: 863-2SC4487T-AN; Packing: Fan-Fold; Polarity: NPN; RoHS: TRUE; Mounting Technology: Through Hole; ComponentLink1Description: Manufacturer URL; ComponentLink1URL: http://www.onsemi.com/; ComponentLink2Description: Datasheet; ComponentLink2URL: http://www.onsemi.com/pub_link/Collateral/EN3093-D.PDF; ComponentLink3Description: Package Specification; ComponentLink3URL: http://www.onsemi.com/pub_link/Collateral/135AD.PDF
footprint ONSC-NMP-3-135AD (NMP, 3-Leads, Body 6.9x2.45mm, Pitch 2.54mm)
pins: 1 E, 2 C, 3 B

## 2SC5569-TD-E
designator Q?
Bipolar Transistor, 50 V, 7 A, Low VCE(sat), NPN Single, 3-Pin SOT-89, Pb-Free, Tape and Reel; Manufacturer: On Semiconductor; PartNumber: 2SC5569-TD-E; hFE Max: 560; hFE Min: 200; IC Continuous (A): 7; V(BR)CEO Min (V): 50; PackageVersion: Rev. O, 04/2012; PackageReference: SOT-89-3-419AW; PackageDescription: 3-Pin Small Outline Transistor, Body 4.5 x 2.5 mm, Pitch 1.5 mm; Supplier 1: Digi-Key; Supplier Part Number 1: 2SC5569-TD-E-ND; Supplier 2: Mouser; Supplier Part Number 2: 863-2SC5569-TD-E; Packing: Tape and Reel; Polarity: NPN; RoHS: TRUE; Mounting Technology: Surface Mount; ComponentLink1Description: Manufacturer URL; ComponentLink1URL: http://www.onsemi.com/; ComponentLink2Description: Datasheet; ComponentLink2URL: http://www.onsemi.com/pub_link/Collateral/EN6309-D.PDF; ComponentLink3Description: Package Specification; ComponentLink3URL: http://www.onsemi.com/pub_link/Collateral/419AW.PDF
footprint ONSC-SOT-89-3-419AW_V (SOT89, 3-Leads, Body 4.5x2.5mm, Pitch 1.5mm)
pins: 1 B, 2 C, 3 E

## 2SC5707-E
designator Q?
Bipolar Transistor, 50 V, 8 A, Low VCE(sat), NPN Single, 3-Pin IPAK, Pb-Free, Bulk Bag; Manufacturer: On Semiconductor; PartNumber: 2SC5707-E; hFE Max: 560; hFE Min: 200; IC Continuous (A): 8; V(BR)CEO Min (V): 50; PackageVersion: Rev. O, 01/2012; PackageReference: IPAK-3-369AJ; PackageDescription: 3-Pin Flange Mount, Vertical Straight Lead, Body 6.5 x 5.5 mm, Pitch 2.3 mm; Supplier 1: Digi-Key; Supplier Part Number 1: 2SC5707-EOS-ND; Supplier 2: Farnell; Supplier Part Number 2: 2317572; Supplier 3: Newark; Supplier Part Number 3: 90W9725; Supplier 4: Newark; Supplier Part Number 4: 65T2498; Supplier 5: Mouser; Supplier Part Number 5: 863-2SC5707-E; Packing: Bulk Bag; Polarity: NPN; RoHS: TRUE; Mounting Technology: Through Hole; ComponentLink1Description: Manufacturer URL; ComponentLink1URL: http://www.onsemi.com/; ComponentLink2Description: Datasheet; ComponentLink2URL: http://www.onsemi.com/pub_link/Collateral/EN6913-D.PDF; ComponentLink3Description: Package Specification; ComponentLink3URL: http://www.onsemi.cn/pub_link/Collateral/369AJ.PDF
footprint ONSC-IPAK-3-369AJ (FM, 3-Leads, Body 6.7x2.5mm, Pitch 2.3mm)
pins: 1 B, 2 C, 3 E

## 2SC5707-TL-E
designator Q?
Bipolar Transistor, 50 V, 8 A, Low VCE(sat), NPN Single, 3-Pin DPAK, Pb-Free, Tape and Reel; Manufacturer: On Semiconductor; PartNumber: 2SC5707-TL-E; hFE Max: 560; hFE Min: 200; IC Continuous (A): 8; V(BR)CEO Min (V): 50; PackageReference: DPAK-3; PackageDescription: 3-Pin Flange Mount, Body 6.5 x 5.5 mm, Pitch 2.3 mm; Supplier 1: Digi-Key; Supplier Part Number 1: 2SC5707-TL-E-ND; Supplier 2: Newark; Supplier Part Number 2: 65T2499; Supplier 3: Mouser; Supplier Part Number 3: 863-2SC5707-TL-E; Packing: Tape and Reel; Polarity: NPN; RoHS: TRUE; Mounting Technology: Surface Mount; ComponentLink1Description: Manufacturer URL; ComponentLink1URL: http://www.onsemi.com/; ComponentLink2Description: Datasheet; ComponentLink2URL: http://www.onsemi.com/pub_link/Collateral/EN6913-D.PDF; ComponentLink3Description: Package Specification; ComponentLink3URL: http://www.onsemi.com/pub_link/Collateral/2SB1204-D.PDF
footprint ONSC-DPAK-3_V (DPAK, 3-Leads, Body 6.5x5.5mm, Pitch 2.3mm)
pins: 1 B, 3 E, 4 C

## 2SC5964-TD-E
designator Q?
Bipolar Transistor, 50 V, 3 A, Low VCE(sat), NPN Single, 3-Pin SOT-89, Pb-Free, Tape and Reel; Manufacturer: On Semiconductor; PartNumber: 2SC5964-TD-E; hFE Max: 560; hFE Min: 200; IC Continuous (A): 3; V(BR)CEO Min (V): 50; PackageVersion: Rev. O, 04/2012; PackageReference: SOT-89_PCP-1-3-419AU; PackageDescription: 3-Pin Small Outline Transistor, Body 4.5 x 2.5 mm, Pitch 1.5 mm; Supplier 1: Digi-Key; Supplier Part Number 1: 2SC5964-TD-E-ND; Supplier 2: Newark; Supplier Part Number 2: 52T9086; Supplier 3: Mouser; Supplier Part Number 3: 863-2SC5964-TD-E; Packing: Tape and Reel; Polarity: NPN; RoHS: TRUE; Mounting Technology: Surface Mount; ComponentLink1Description: Manufacturer URL; ComponentLink1URL: http://www.onsemi.com/; ComponentLink2Description: Datasheet; ComponentLink2URL: http://www.onsemi.com/pub_link/Collateral/EN7988-D.PDF; ComponentLink3Description: Package Specification; ComponentLink3URL: http://www.onsemi.com/pub_link/Collateral/ENA1087-D.PDF
footprint ONSC-SOT-89_PCP-1-3-419AU_V (SOT89, 3-Leads, Body 4.5x2.5mm, Pitch 1.5mm)
pins: 1 B, 2 C, 3 E

## 2SC5964-TD-H
designator Q?
Bipolar Transistor, 50 V, 3 A, Low VCE(sat), NPN Single, 3-Pin SOT-89, Pb-Free, Tape and Reel; Manufacturer: On Semiconductor; PartNumber: 2SC5964-TD-H; hFE Max: 560; hFE Min: 200; IC Continuous (A): 3; V(BR)CEO Min (V): 50; PackageVersion: Rev. O, 04/2012; PackageReference: SOT-89_PCP-1-3-419AU; PackageDescription: 3-Pin Small Outline Transistor, Body 4.5 x 2.5 mm, Pitch 1.5 mm; Supplier 1: Mouser; Supplier Part Number 1: 863-2SC5964-TD-H; Packing: Tape and Reel; Polarity: NPN; RoHS: TRUE; Mounting Technology: Surface Mount; ComponentLink1Description: Manufacturer URL; ComponentLink1URL: http://www.onsemi.com/; ComponentLink2Description: Datasheet; ComponentLink2URL: http://www.onsemi.com/pub_link/Collateral/EN7988-D.PDF; ComponentLink3Description: Package Specification; ComponentLink3URL: http://www.onsemi.com/pub_link/Collateral/ENA1087-D.PDF
footprint ONSC-SOT-89_PCP-1-3-419AU_V (SOT89, 3-Leads, Body 4.5x2.5mm, Pitch 1.5mm)
pins: 1 B, 2 C, 3 E

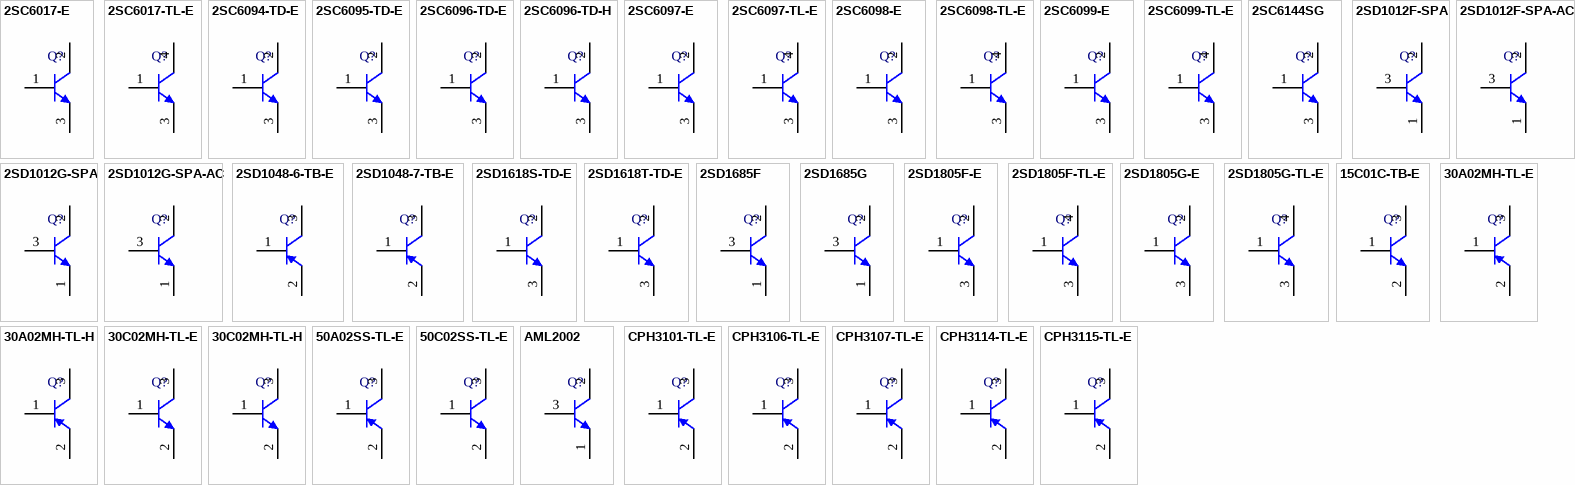
[diagram p1: symbols 2SC6017-E to CPH3115-TL-E]

## 2SC6017-E
designator Q?
Bipolar Transistor, 50 V, 10 A, Low VCE(sat), NPN Single, 3-Pin IPAK, Pb-Free, Bulk Bag; Manufacturer: On Semiconductor; PartNumber: 2SC6017-E; hFE Max: 700; hFE Min: 200; IC Continuous (A): 10; V(BR)CEO Min (V): 50; VCE(sat) Max (V): 0.36; PackageVersion: Rev. O, 01/2012; PackageReference: IPAK-3-369AJ; PackageDescription: 3-Pin Flange Mount, Vertical Straight Lead, Body 6.5 x 5.5 mm, Pitch 2.3 mm; Supplier 1: Digi-Key; Supplier Part Number 1: 2SC6017-E-ND; Supplier 2: Newark; Supplier Part Number 2: 65T2501; Supplier 3: Mouser; Supplier Part Number 3: 863-2SC6017-E; Packing: Bulk Bag; Polarity: NPN; RoHS: TRUE; Mounting Technology: Through Hole; ComponentLink1Description: Manufacturer URL; ComponentLink1URL: http://www.onsemi.com/; ComponentLink2Description: Datasheet; ComponentLink2URL: http://www.onsemi.com/pub_link/Collateral/EN8275-D.PDF; ComponentLink3Description: Package Specification; ComponentLink3URL: http://www.onsemi.cn/pub_link/Collateral/369AJ.PDF
footprint ONSC-IPAK-3-369AJ (FM, 3-Leads, Body 6.7x2.5mm, Pitch 2.3mm)
pins: 1 B, 2 C, 3 E

## 2SC6017-TL-E
designator Q?
Bipolar Transistor, 50 V, 10 A, Low VCE(sat), NPN Single, 3-Pin DPAK, Pb-Free, Tape and Reel; Manufacturer: On Semiconductor; PartNumber: 2SC6017-TL-E; hFE Max: 700; hFE Min: 200; IC Continuous (A): 10; V(BR)CEO Min (V): 50; VCE(sat) Max (V): 0.36; PackageReference: DPAK-3; PackageDescription: 3-Pin Flange Mount, Body 6.5 x 5.5 mm, Pitch 2.3 mm; Supplier 1: Digi-Key; Supplier Part Number 1: 2SC6017-TL-E-ND; Supplier 2: Mouser; Supplier Part Number 2: 863-2SC6017-TL-E; Packing: Tape and Reel; Polarity: NPN; RoHS: TRUE; Mounting Technology: Surface Mount; ComponentLink1Description: Manufacturer URL; ComponentLink1URL: http://www.onsemi.com/; ComponentLink2Description: Datasheet; ComponentLink2URL: http://www.onsemi.com/pub_link/Collateral/EN8275-D.PDF; ComponentLink3Description: Package Specification; ComponentLink3URL: http://www.onsemi.com/pub_link/Collateral/2SB1204-D.PDF
footprint ONSC-DPAK-3_V (DPAK, 3-Leads, Body 6.5x5.5mm, Pitch 2.3mm)
pins: 1 B, 3 E, 4 C

## 2SC6094-TD-E
designator Q?
Bipolar Transistor, 60 V, 3 A, Low VCE(sat), NPN Single, 3-Pin SOT-89, Pb-Free, Tape and Reel; Manufacturer: On Semiconductor; PartNumber: 2SC6094-TD-E; hFE Max: 600; hFE Min: 300; IC Continuous (A): 3; V(BR)CEO Min (V): 60; PackageVersion: Rev. O, 04/2012; PackageReference: SOT-89_PCP-1-3-419AU; PackageDescription: 3-Pin Small Outline Transistor, Body 4.5 x 2.5 mm, Pitch 1.5 mm; Supplier 1: Digi-Key; Supplier Part Number 1: 2SC6094-TD-E-ND; Supplier 2: Mouser; Supplier Part Number 2: 863-2SC6094-TD-E; Packing: Tape and Reel; Polarity: NPN; RoHS: TRUE; Mounting Technology: Surface Mount; ComponentLink1Description: Manufacturer URL; ComponentLink1URL: http://www.onsemi.com/; ComponentLink2Description: Datasheet; ComponentLink2URL: http://www.onsemi.com/pub_link/Collateral/ENA0410-D.PDF; ComponentLink3Description: Package Specification; ComponentLink3URL: http://www.onsemi.com/pub_link/Collateral/ENA1087-D.PDF
footprint ONSC-SOT-89_PCP-1-3-419AU_V (SOT89, 3-Leads, Body 4.5x2.5mm, Pitch 1.5mm)
pins: 1 B, 2 C, 3 E

## 2SC6095-TD-E
designator Q?
Bipolar Transistor, 80 V, 2.5 A, Low VCE(sat), NPN Single, 3-Pin SOT-89, Pb-Free, Tape and Reel; Manufacturer: On Semiconductor; PartNumber: 2SC6095-TD-E; hFE Max: 600; hFE Min: 300; IC Continuous (A): 2.5; V(BR)CEO Min (V): 80; PackageVersion: Rev. O, 04/2012; PackageReference: SOT-89_PCP-1-3-419AU; PackageDescription: 3-Pin Small Outline Transistor, Body 4.5 x 2.5 mm, Pitch 1.5 mm; Supplier 1: Digi-Key; Supplier Part Number 1: 2SC6095-TD-E-ND; Supplier 2: Mouser; Supplier Part Number 2: 863-2SC6095-TD-E; Packing: Tape and Reel; Polarity: NPN; RoHS: TRUE; Mounting Technology: Surface Mount; ComponentLink1Description: Manufacturer URL; ComponentLink1URL: http://www.onsemi.com/; ComponentLink2Description: Datasheet; ComponentLink2URL: http://www.onsemi.com/pub_link/Collateral/ENA0411-D.PDF; ComponentLink3Description: Package Specification; ComponentLink3URL: http://www.onsemi.com/pub_link/Collateral/ENA1087-D.PDF
footprint ONSC-SOT-89_PCP-1-3-419AU_V (SOT89, 3-Leads, Body 4.5x2.5mm, Pitch 1.5mm)
pins: 1 B, 2 C, 3 E

## 2SC6096-TD-E
designator Q?
Bipolar Transistor, 100 V, 2 A, Low VCE(sat), NPN Single, 3-Pin SOT-89, Pb-Free, Tape and Reel; Manufacturer: On Semiconductor; PartNumber: 2SC6096-TD-E; hFE Max: 600; hFE Min: 300; IC Continuous (A): 2; V(BR)CEO Min (V): 100; VCE(sat) Max (V): 0.15; PackageVersion: Rev. O, 04/2012; PackageReference: SOT-89_PCP-1-3-419AU; PackageDescription: 3-Pin Small Outline Transistor, Body 4.5 x 2.5 mm, Pitch 1.5 mm; Supplier 1: Digi-Key; Supplier Part Number 1: 2SC6096-TD-E-ND; Supplier 2: Newark; Supplier Part Number 2: 65T2506; Supplier 3: Mouser; Supplier Part Number 3: 863-2SC6096-TD-E; Packing: Tape and Reel; Polarity: NPN; RoHS: TRUE; Mounting Technology: Surface Mount; ComponentLink1Description: Manufacturer URL; ComponentLink1URL: http://www.onsemi.com/; ComponentLink2Description: Datasheet; ComponentLink2URL: http://www.onsemi.com/pub_link/Collateral/ENA0434-D.PDF; ComponentLink3Description: Package Specification; ComponentLink3URL: http://www.onsemi.com/pub_link/Collateral/ENA1087-D.PDF
footprint ONSC-SOT-89_PCP-1-3-419AU_V (SOT89, 3-Leads, Body 4.5x2.5mm, Pitch 1.5mm)
pins: 1 B, 2 C, 3 E

## 2SC6096-TD-H
designator Q?
Bipolar Transistor, 100 V, 2 A, Low VCE(sat), NPN Single, 3-Pin SOT-89, Pb-Free, Tape and Reel; Manufacturer: On Semiconductor; PartNumber: 2SC6096-TD-H; hFE Max: 600; hFE Min: 300; IC Continuous (A): 2; V(BR)CEO Min (V): 100; VCE(sat) Max (V): 0.15; PackageVersion: Rev. O, 04/2012; PackageReference: SOT-89_PCP-1-3-419AU; PackageDescription: 3-Pin Small Outline Transistor, Body 4.5 x 2.5 mm, Pitch 1.5 mm; Supplier 1: Digi-Key; Supplier Part Number 1: 2SC6096-TD-H-ND; Supplier 2: Mouser; Supplier Part Number 2: 863-2SC6096-TD-H; Packing: Tape and Reel; Polarity: NPN; RoHS: TRUE; Mounting Technology: Surface Mount; ComponentLink1Description: Manufacturer URL; ComponentLink1URL: http://www.onsemi.com/; ComponentLink2Description: Datasheet; ComponentLink2URL: http://www.onsemi.com/pub_link/Collateral/ENA0434-D.PDF; ComponentLink3Description: Package Specification; ComponentLink3URL: http://www.onsemi.com/pub_link/Collateral/ENA1087-D.PDF
footprint ONSC-SOT-89_PCP-1-3-419AU_V (SOT89, 3-Leads, Body 4.5x2.5mm, Pitch 1.5mm)
pins: 1 B, 2 C, 3 E

## 2SC6097-E
designator Q?
Bipolar Transistor, 60 V, 3 A, Low VCE(sat), NPN Single, 3-Pin IPAK, Pb-Free, Bulk Bag; Manufacturer: On Semiconductor; PartNumber: 2SC6097-E; hFE Max: 600; hFE Min: 300; IC Continuous (A): 3; V(BR)CEO Min (V): 60; PackageVersion: Rev. O, 01/2012; PackageReference: IPAK-3-369AJ; PackageDescription: 3-Pin Flange Mount, Vertical Straight Lead, Body 6.5 x 5.5 mm, Pitch 2.3 mm; Supplier 1: Digi-Key; Supplier Part Number 1: 2SC6097-E-ND; Supplier 2: Mouser; Supplier Part Number 2: 863-2SC6097-E; Packing: Bulk Bag; Polarity: NPN; RoHS: TRUE; Mounting Technology: Through Hole; ComponentLink1Description: Manufacturer URL; ComponentLink1URL: http://www.onsemi.com/; ComponentLink2Description: Datasheet; ComponentLink2URL: http://www.onsemi.com/pub_link/Collateral/2SC6097-D.PDF; ComponentLink3Description: Package Specification; ComponentLink3URL: http://www.onsemi.cn/pub_link/Collateral/369AJ.PDF
footprint ONSC-IPAK-3-369AJ (FM, 3-Leads, Body 6.7x2.5mm, Pitch 2.3mm)
pins: 1 B, 2 C, 3 E